# EAGLE library part CMX823 (library cml-micro)
Programmable Tone Decoder
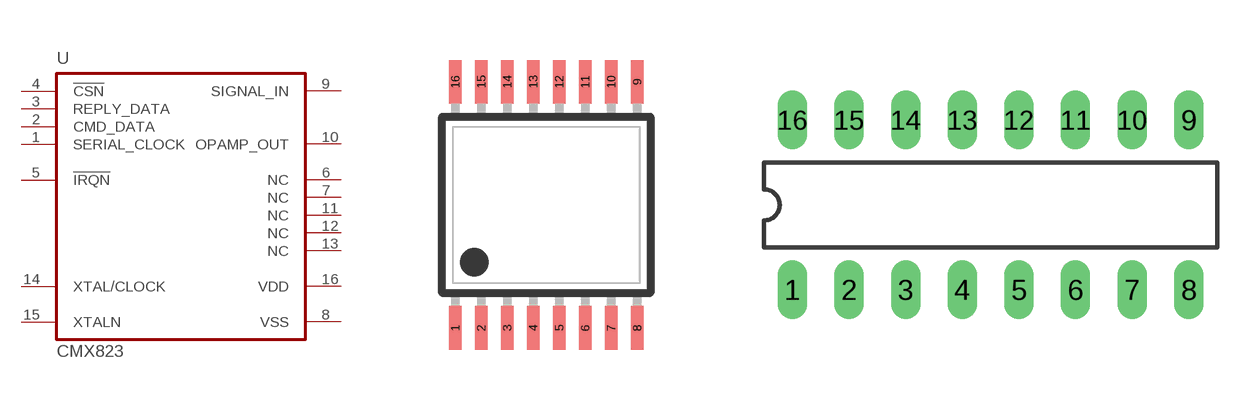
[diagram p8: symbol with the pads of TSSOP16; footprints TSSOP16, DIL16]

Designator prefix U

## CMX823E4  [TSSOP16]
1  SERIAL_CLOCK  in
2  CMD_DATA  in
3  REPLY_DATA  out
4  !CSN!  in
5  !IRQN!  oc
6  NC  nc
7  NC  nc
8  VSS  pwr
9  SIGNAL_IN  in
10  OPAMP_OUT  out
11  NC  nc
12  NC  nc
13  NC  nc
14  XTAL/CLOCK  in
15  XTALN  out
16  VDD  pwr

## CMX823P3  [DIL16]
Pads as for TSSOP16

## Footprint TSSOP16 (pad centres in mm)
Thin Shrink Small Outline Plastic 16
smd 0.31 x 1.1: 1 -2.275,-3.08; 2 -1.625,-3.08; 3 -0.975,-3.08; 4 -0.325,-3.08; 5 0.325,-3.08; 6 0.975,-3.08; 7 1.625,-3.08; 8 2.275,-3.08; 9 2.275,3.08; 10 1.625,3.08; 11 0.975,3.08; 12 0.325,3.08; 13 -0.325,3.08; 14 -0.975,3.08; 15 -1.625,3.08; 16 -2.275,3.08

## Footprint DIL16 (pad centres in mm)
Dual In Line Package
drill 0.813 long: 1 -8.89,-3.81; 2 -6.35,-3.81; 3 -3.81,-3.81; 4 -1.27,-3.81; 5 1.27,-3.81; 6 3.81,-3.81; 7 6.35,-3.81; 8 8.89,-3.81; 9 8.89,3.81; 10 6.35,3.81; 11 3.81,3.81; 12 1.27,3.81; 13 -1.27,3.81; 14 -3.81,3.81; 15 -6.35,3.81; 16 -8.89,3.81